# Altium schematic symbol library pll_schematic_lib.SchLib: 17 symbols
Pins are listed as number, name and electrical type; pins without a type are passive.

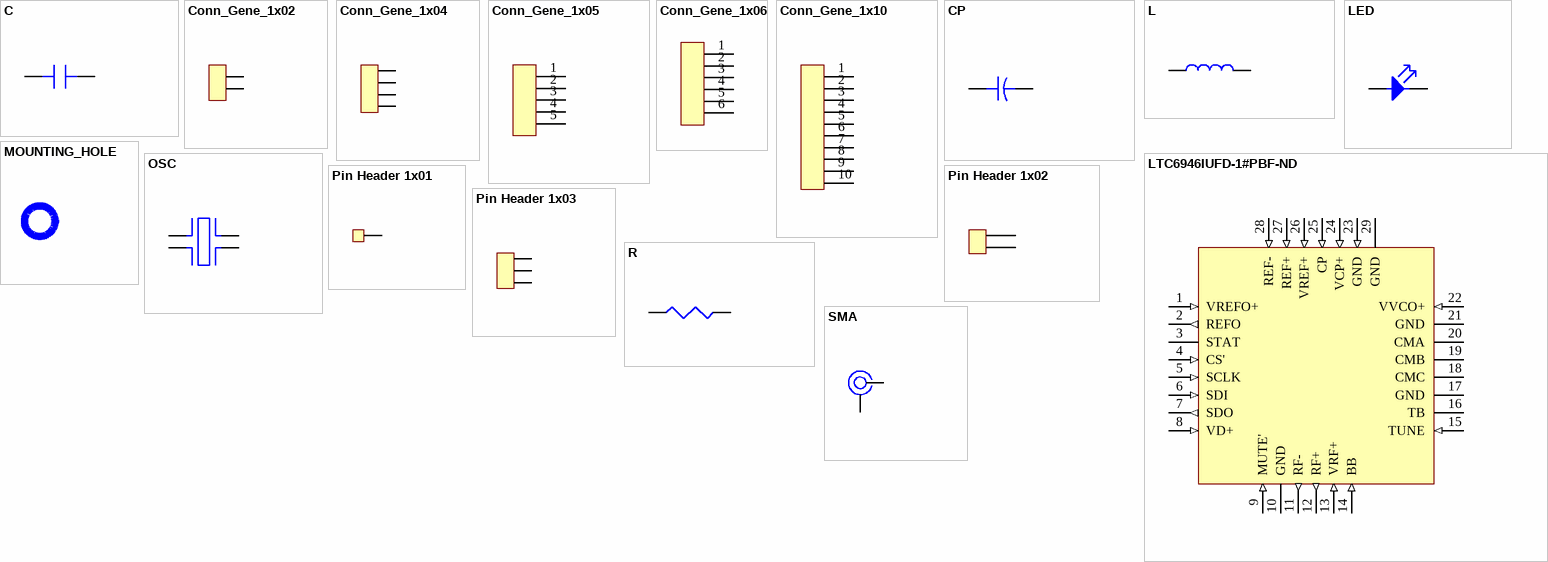
[diagram p0: symbols C to SMA]

## C
designator C?, comment -
pins: 1 -, 2 -

## Conn_Gene_1x02
designator J?, comment -  (value not drawn)
pins: 1 -, 2 -

## Conn_Gene_1x04
designator J?, comment -  (value not drawn)
pins: 1 -, 2 -, 3 -, 4 -

## Conn_Gene_1x05
designator J?
footprint ACS770
pins: 1, 2, 3, 4, 5

## Conn_Gene_1x06
designator J?  (value not drawn)
footprint ACS770
pins: 1 -, 2 -, 3 -, 4 -, 5 -, 6 -

## Conn_Gene_1x10
designator J?, comment -  (value not drawn)
footprint IDC-2x05
pins: 1 *, 2 *, 3 *, 4 *, 5 *, 6 *, 7 *, 8 *, 9 *, 10 *

## CP
designator *
pins: 1 -, 2 -

## L
designator L?, comment -
pins: 1 -, 2 -

## LED
designator D?, comment -  (value not drawn)
footprint D0805
pins: A, C

## LTC6946IUFD-1#PBF-ND
designator U?, comment LTC6946
ComponentLink1Description: LTC6946; ComponentLink1URL: https://www.digikey.com/en/products/detail/analog-devices-inc/LTC6946IUFD-1-PBF/2756832
footprint QFN50P400X500X80_HS-29N_2 (QFN, 28-Leads, Body 4.00x5.00mm, Pitch 0.50mm, Thermal Pad 2.70x3.70mm, IPC Medium Density)
pins: 1 VREFO+ (in), 2 REFO (out), 3 STAT, 4 CS' (in), 5 SCLK (in), 6 SDI (in), 7 SDO (out), 8 VD+ (in), 9 MUTE' (in), 10 GND, 11 RF- (out), 12 RF+ (out), 13 VRF+ (in), 14 BB (in), 15 TUNE (in), 16 TB, 17 GND, 18 CMC, 19 CMB, 20 CMA, 21 GND, 22 VVCO+ (in), 23 GND (in), 24 VCP+ (in), 25 CP (in), 26 VREF+ (in), 27 REF+ (in), 28 REF- (in), 29 GND

## MOUNTING_HOLE
designator M?, comment Mounting_Hole_NP  (value not drawn)
Non-Plated
footprint MOUNTING_HOLE_NP_M3

## OSC
designator Y?, comment -  (value not drawn)
footprint XOSC
pins: 1, 4, 5, 8

## Pin Header 1x01
designator JP?, comment -  (value not drawn)
pins: 1 -

## Pin Header 1x02
designator JP?, comment -  (value not drawn)
pins: 1 -, 2 -

## Pin Header 1x03
designator JP?, comment -  (value not drawn)
footprint ACS770
pins: 1 -, 2 -, 3 -

## R
designator R?, comment -
pins: 1 -, 2 -

## SMA
designator SMA?, comment -  (value not drawn)
footprint SMA
pins: 1 -, 2 -